# Altium footprint library 74437336033.PcbLib: 3 footprints
Each footprint in its own frame and in the unit in brackets; x right, y up, seen from the top. Pads: shape width x height; smd on the part's side, far side on the other; paste and mask are expansions set on the pad; w line width, h text height; cw(c..) or ccw(c..) is an arc to the next point about the centre after c.
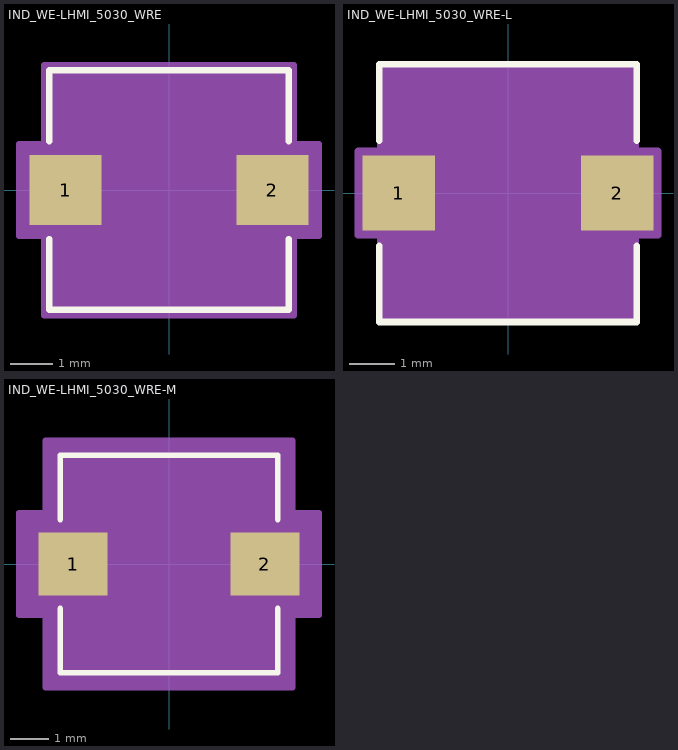
[diagram p0: the footprints below, top view; thin cyan lines are the x and y axes]

## IND_WE-LHMI_5030_WRE [mm]
pads (2):
  rect 1.697x1.652 smd paste+0 mask+0: 1(-2.449,0) 2(2.449,0)
Top Overlay:
  lines w0.152: -2.832,-1.159 -2.832,-2.832 2.832,-2.832 2.832,-1.159 ; -2.832,1.159 -2.832,2.832 2.832,2.832 2.832,1.159
Mechanical 13:
  circle w0: c-1.6,0 r0.076
  lines w0: -0.305,2.705 ccw(c0,2.705) 0.305,2.705
  lines w0.025: -2.705,-2.705 2.705,-2.705 2.705,2.705 -2.705,2.705 -2.705,-2.705
Mechanical 15:
  region: -2.959,-1.08 -3.551,-1.08 -3.551,1.08 -2.959,1.08 -2.959,2.959 2.959,2.959 2.959,1.08 3.551,1.08 3.551,-1.08 2.959,-1.08 2.959,-2.959 -2.959,-2.959
  lines w0.152: -3.551,-1.08 -3.551,1.08 -2.959,1.08 -2.959,2.959 2.959,2.959 2.959,1.08 3.551,1.08 3.551,-1.08 2.959,-1.08 2.959,-2.959 -2.959,-2.959 -2.959,-1.08 -3.551,-1.08
3D body "IND_WE-LHMI_5030_WRE.step": height 3, standoff 0, extent -2.997,-2.705 2.997,2.705

## IND_WE-LHMI_5030_WRE-L [mm]
pads (2):
  rect 1.597x1.652 smd paste+0 mask+0: 1(-2.399,0) 2(2.399,0)
Top Overlay:
  lines w0.152: -2.832,-1.159 -2.832,-2.832 2.832,-2.832 2.832,-1.159 ; -2.832,1.159 -2.832,2.832 2.832,2.832 2.832,1.159
Mechanical 13:
  circle w0: c-1.6,0 r0.076
  lines w0: -0.305,2.705 ccw(c0,2.705) 0.305,2.705
  lines w0.025: -2.705,-2.705 2.705,-2.705 2.705,2.705 -2.705,2.705 -2.705,-2.705
Mechanical 15:
  region: -2.807,-0.927 -3.299,-0.927 -3.299,0.927 -2.807,0.927 -2.807,2.807 2.807,2.807 2.807,0.927 3.299,0.927 3.299,-0.927 2.807,-0.927 2.807,-2.807 -2.807,-2.807
  lines w0.152: -3.299,-0.927 -3.299,0.927 -2.807,0.927 -2.807,2.807 2.807,2.807 2.807,0.927 3.299,0.927 3.299,-0.927 2.807,-0.927 2.807,-2.807 -2.807,-2.807 -2.807,-0.927 -3.299,-0.927
3D body "IND_WE-LHMI_5030_WRE.step": height 3, standoff 0, extent -2.997,-2.705 2.997,2.705

## IND_WE-LHMI_5030_WRE-M [mm]
pads (2):
  rect 1.797x1.652 smd paste+0 mask+0: 1(-2.499,0) 2(2.499,0)
Top Overlay:
  lines w0.152: -2.832,-1.159 -2.832,-2.832 2.832,-2.832 2.832,-1.159 ; -2.832,1.159 -2.832,2.832 2.832,2.832 2.832,1.159
Mechanical 13:
  circle w0: c-1.6,0 r0.076
  lines w0: -0.305,2.705 ccw(c0,2.705) 0.305,2.705
  lines w0.025: -2.705,-2.705 2.705,-2.705 2.705,2.705 -2.705,2.705 -2.705,-2.705
Mechanical 15:
  region: -3.213,-1.334 -3.905,-1.334 -3.905,1.334 -3.213,1.334 -3.213,3.213 3.213,3.213 3.213,1.334 3.905,1.334 3.905,-1.334 3.213,-1.334 3.213,-3.213 -3.213,-3.213
  lines w0.152: -3.905,-1.334 -3.905,1.334 -3.213,1.334 -3.213,3.213 3.213,3.213 3.213,1.334 3.905,1.334 3.905,-1.334 3.213,-1.334 3.213,-3.213 -3.213,-3.213 -3.213,-1.334 -3.905,-1.334
3D body "IND_WE-LHMI_5030_WRE.step": height 3, standoff 0, extent -2.997,-2.705 2.997,2.705